# EAGLE library part QWIIC_DEVICE (library airqualityparts)
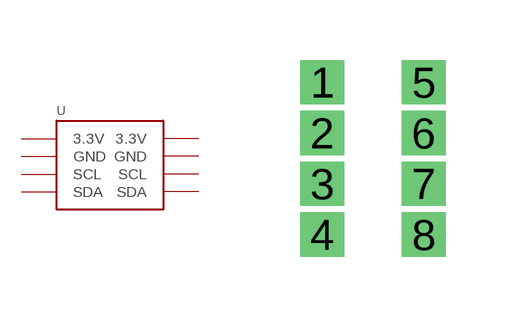
[diagram p1: symbol with the pads of QWIIC_DEVICE; footprint QWIIC_DEVICE]

Designator prefix -

## QWIIC_DEVICE  [QWIIC_DEVICE]
1  3.3V
2  GND
3  SCL
4  SDA
5  3.3V
6  GND
7  SCL
8  SDA

## Footprint QWIIC_DEVICE (pad centres in mm)
drill 0.6 square: 1 -8.89,5.08; 2 -8.89,3.81; 3 -8.89,2.54; 4 -8.89,1.27; 5 -6.35,5.08; 6 -6.35,3.81; 7 -6.35,2.54; 8 -6.35,1.27